# EAGLE library part MCP4728 (library nonolith)
12b I2C DAC: MCP4728
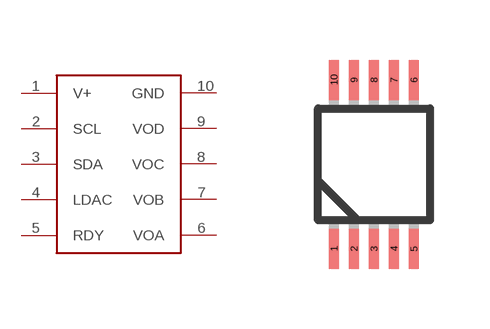
[diagram p3: symbol with the pads of MSOP10; footprint MSOP10]

Designator prefix -

## MCP4728  [MSOP10]
1  V+
2  SCL
3  SDA
4  LDAC
5  RDY
6  VOA
7  VOB
8  VOC
9  VOD
10  GND

## Footprint MSOP10 (pad centres in mm)
MSOP10 - .5mm
smd 0.25 x 1: 1 -1,-2.113; 2 -0.5,-2.113; 3 0,-2.113; 4 0.5,-2.113; 5 1,-2.113; 6 1,2.113; 7 0.5,2.113; 8 0,2.113; 9 -0.5,2.113; 10 -1,2.113